# Altium footprint library IC.PcbLib: 51 footprints (part 1 of 4)
Each footprint in its own frame and in the unit in brackets; x right, y up, seen from the top. Pads: shape width x height; smd on the part's side, far side on the other; paste and mask are expansions set on the pad; w line width, h text height; cw(c..) or ccw(c..) is an arc to the next point about the centre after c.
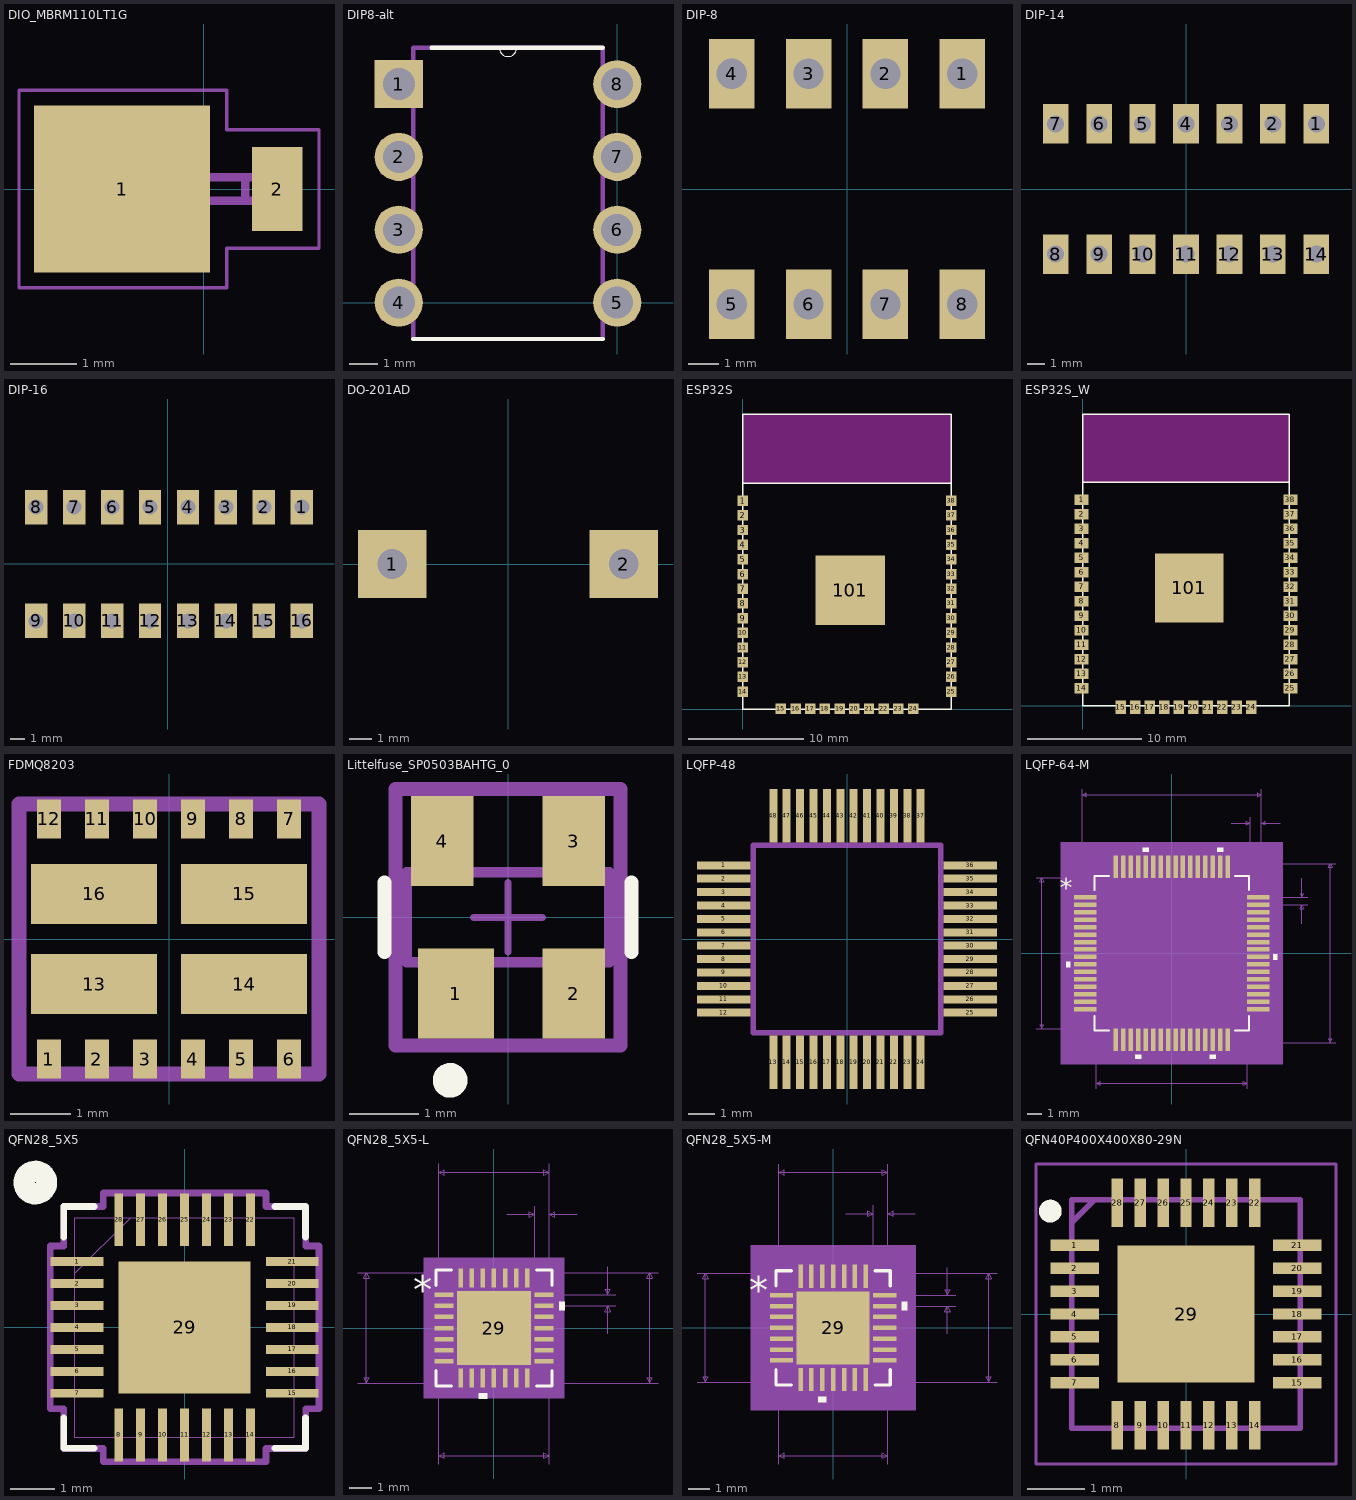
[diagram p0: the footprints below, top view; thin cyan lines are the x and y axes]

## DIO_MBRM110LT1G [mm]
pads (2):
  rect 2.67x2.54 smd: 1(-1.235,0)
  rect 0.762x1.27 smd: 2(1.116,0)
Mechanical 1:
  lines w0.127: -1.96,-0.425 -2.46,-0.425 -2.46,0.425 -1.96,0.425 ; -1.96,-0.425 -1.96,0.425 ; -1.96,-0.425 -1.96,-1 0,-1 0,-0.18 ; -1.96,0.425 -1.96,1 0,1 0,0.18 ; 0,-0.18 0.635,-0.18 ; 0,-0.18 0,0.18 ; 0,0.18 0.635,0.18 ; 0.635,-0.18 0.635,0.18 ; 0.635,-0.18 1.35,-0.18 1.35,0.18 0.635,0.18
Mechanical 4:
  lines w0.05: -2.8,-1.5 -2.8,1.5 0.35,1.5 0.35,0.9 1.75,0.9 1.75,-0.9 0.35,-0.9 0.35,-1.5 -2.8,-1.5

## DIP8-alt [mil]
pads (8):
  rect 66x66 hole 44: 1(-300,300)
  round 66 hole 44: 2(-300,200) 3(-300,100) 4(-300,0) 5(0,0) 6(0,100) 7(0,200) 8(0,300)
Top Overlay:
  lines w0: -162,350 ccw(c-150,350) -138,350
  lines w6: -280,-50 -20,-50 ; -255,350 -162,350 -138,350 -20,350
Mechanical 1:
  lines w0: -162,350 ccw(c-150,350) -138,350
  lines w6: -322,-22 -280,-22 -280,22 -322,22 -322,-22 ; -322,78 -280,78 -280,122 -322,122 -322,78 ; -322,178 -280,178 -280,222 -322,222 -322,178 ; -322,278 -280,278 -280,322 -322,322 -322,278 ; -280,-50 -280,350 -162,350 -138,350 -20,350 -20,-50 -280,-50 ; -20,-22 22,-22 22,22 -20,22 -20,-22 ; -20,78 22,78 22,122 -20,122 -20,78 ; -20,178 22,178 22,222 -20,222 -20,178 ; -20,278 22,278 22,322 -20,322 -20,278

## DIP-8 [mm]
pads (8):
  rect 1.5x2.3 hole 1: 1(3.81,3.81) 2(1.27,3.81) 3(-1.27,3.81) 4(-3.81,3.81) 5(-3.81,-3.81) 6(-1.27,-3.81) 7(1.27,-3.81) 8(3.81,-3.81)
3D body "MS-001BA DIP-8.stp": height 5.33, standoff -2.95, extent -5.08,-4.06 5.08,3.81

## DIP-14 [mm]
pads (14):
  rect 1.5x2.3 hole 1: 1(7.62,3.81) 2(5.08,3.81) 3(2.54,3.81) 4(0,3.81) 5(-2.54,3.81) 6(-5.08,3.81) 7(-7.62,3.81) 8(-7.62,-3.81) 9(-5.08,-3.81) 10(-2.54,-3.81) 11(0,-3.81) 12(2.54,-3.81) 13(5.08,-3.81) 14(7.62,-3.81)
3D body "MS-001AA DIP-14.stp": height 5.33, standoff -2.95, extent -9.845,-3.81 9.845,4.06

## DIP-16 [mm]
pads (16):
  rect 1.5x2.3 hole 1: 1(8.98,3.8) 2(6.44,3.8) 3(3.9,3.8) 4(1.36,3.8) 5(-1.18,3.8) 6(-3.72,3.8) 7(-6.26,3.8) 8(-8.8,3.8) 9(-8.8,-3.82) 10(-6.26,-3.82) 11(-3.72,-3.82) 12(-1.18,-3.82) 13(1.36,-3.82) 14(3.9,-3.82) 15(6.44,-3.82) 16(8.98,-3.82)
3D body "MS-001AB DIP-16.stp": height 5.33, standoff -2.95, extent -10.06,-3.97 10.26,3.9

## DO-201AD [mm]
pads (2):
  rect 3x3 hole 1.3: 1(-5.08,0) 2(5.08,0)

## ESP32S [mm] "ESP32S-Module"
height 2.8
pads (39):
  rect 0.9x0.9 smd: 1(0,18.034) 2(0,16.764) 3(0,15.494) 4(0,14.224) 5(0,12.954) 6(0,11.684) 7(0,10.414) 8(0,9.144) 9(0,7.874) 10(0,6.604) 11(0,5.334) 12(0,4.064) 13(0,2.794) 14(0,1.524) 15(3.3,0.034) 16(4.57,0.034) 17(5.84,0.034) 18(7.11,0.034) 19(8.38,0.034) 20(9.65,0.034) 21(10.92,0.034) 22(12.19,0.034) 23(13.46,0.034) 24(14.73,0.034) 25(18.034,1.524) 26(18.034,2.794) 27(18.034,4.064) 28(18.034,5.334) 29(18.034,6.604) 30(18.034,7.874) 31(18.034,9.144) 32(18.034,10.414) 33(18.034,11.684) 34(18.034,12.954) 35(18.034,14.224) 36(18.034,15.494) 37(18.034,16.764) 38(18.034,18.034)
  rect 6x6 smd: 101(9.3,10.3)
Top Overlay:
  lines w0.127: 0,19.558 18.034,19.558 ; 0,0 0,25.527 18.034,25.527 18.034,0 0,0
Keep-Out Layer:
  rectangle: 0,19.558 18.034,25.527
3D body: height 0.8, standoff 0, extent 0,0 18.034,25.527
3D body: height 2, standoff 0.8, extent 0.635,0.635 17.526,19.558

## ESP32S_W [mm] "Esp32S Module wide for hand soldering"
pads (39):
  rect 1.2x0.9 smd: 1(-0.127,18.034) 2(-0.127,16.764) 3(-0.127,15.494) 4(-0.127,14.224) 5(-0.127,12.954) 6(-0.127,11.684) 7(-0.127,10.414) 8(-0.127,9.144) 9(-0.127,7.874) 10(-0.127,6.604) 11(-0.127,5.334) 12(-0.127,4.064) 13(-0.127,2.794) 14(-0.127,1.524) 25(18.161,1.524) 26(18.161,2.794) 27(18.161,4.064) 28(18.161,5.334) 29(18.161,6.604) 30(18.161,7.874) 31(18.161,9.144) 32(18.161,10.414) 33(18.161,11.684) 34(18.161,12.954) 35(18.161,14.224) 36(18.161,15.494) 37(18.161,16.764) 38(18.161,18.034)
  rect 0.9x1.2 smd: 15(3.302,-0.127) 16(4.57,-0.127) 17(5.84,-0.127) 18(7.11,-0.127) 19(8.38,-0.127) 20(9.65,-0.127) 21(10.92,-0.127) 22(12.19,-0.127) 23(13.46,-0.127) 24(14.73,-0.127)
  rect 6x6 smd: 101(9.3,10.3)
Top Overlay:
  lines w0.127: 0,19.558 18.034,19.558 ; 0,0 0,25.527 18.034,25.527 18.034,0 0,0
Keep-Out Layer:
  rectangle: 0,19.558 18.034,25.527
3D body: height 0.8, standoff 0, extent 0,0 18.034,25.527
3D body: height 2, standoff 0.8, extent 0.635,0.635 17.526,19.558

## FDMQ8203 [mm]
pads (16):
  rect 0.4x0.65 smd: 1(-2,-2) 2(-1.2,-2) 3(-0.4,-2) 4(0.4,-2) 5(1.2,-2) 6(2,-2) 7(2,2) 8(1.2,2) 9(0.4,2) 10(-0.4,2) 11(-1.2,2) 12(-2,2)
  rect 2.1x1 smd: 13(-1.25,-0.75) 14(1.25,-0.75) 15(1.25,0.75) 16(-1.25,0.75)
Mechanical 1:
  lines w0.254: -2.5,-2.25 -2.5,2.25 2.5,2.25 2.5,-2.25 -2.5,-2.25

## Littelfuse_SP0503BAHTG_0 [mm]
pads (4):
  rect 1.1x1.3 smd paste+0 mask+0: 1(-0.75,-1.1)
  rect 0.9x1.3 smd paste+0 mask+0: 2(0.95,-1.1) 3(0.95,1.1) 4(-0.95,1.1)
Top Overlay:
  circle w0.25: c-0.835,-2.35 r0.125
  lines w0.2: -1.78,-0.5 -1.78,0.5 ; 1.78,-0.5 1.78,0.5
Mechanical 10:
  lines w0.2: -1.62,-1.85 1.62,-1.85 1.62,1.85 -1.62,1.85 -1.62,-1.85
Mechanical 12:
  lines w0.15: -1.46,-0.65 1.46,-0.65 1.46,0.65 -1.46,0.65 -1.46,-0.65
Mechanical 15:
  lines w0.1: -0.5,0 0.5,0 ; 0,-0.5 0,0.5
  lines w0.2: -1.62,-1.85 1.62,-1.85 1.62,1.85 -1.62,1.85 -1.62,-1.85
3D body "Diode_Littelfuse_SP0503BAHTG_eec.STEP": height 1.22, standoff 0, extent -1.45,-1.181 1.45,1.182

## LQFP-48 [mm]
pads (48):
  rect 2x0.3 smd: 1(-4.6,2.75) 2(-4.6,2.25) 3(-4.6,1.75) 4(-4.6,1.25) 5(-4.6,0.75) 6(-4.6,0.25) 7(-4.6,-0.25) 8(-4.6,-0.75) 9(-4.6,-1.25) 10(-4.6,-1.75) 11(-4.6,-2.25) 12(-4.6,-2.75) 25(4.6,-2.75) 26(4.6,-2.25) 27(4.6,-1.75) 28(4.6,-1.25) 29(4.6,-0.75) 30(4.6,-0.25) 31(4.6,0.25) 32(4.6,0.75) 33(4.6,1.25) 34(4.6,1.75) 35(4.6,2.25) 36(4.6,2.75)
  rect 0.3x2 smd: 13(-2.75,-4.6) 14(-2.25,-4.6) 15(-1.75,-4.6) 16(-1.25,-4.6) 17(-0.75,-4.6) 18(-0.25,-4.6) 19(0.25,-4.6) 20(0.75,-4.6) 21(1.25,-4.6) 22(1.75,-4.6) 23(2.25,-4.6) 24(2.75,-4.6) 37(2.75,4.6) 38(2.25,4.6) 39(1.75,4.6) 40(1.25,4.6) 41(0.75,4.6) 42(0.25,4.6) 43(-0.25,4.6) 44(-0.75,4.6) 45(-1.25,4.6) 46(-1.75,4.6) 47(-2.25,4.6) 48(-2.75,4.6)
Mechanical 1:
  lines w0.2: -3.5,-3.5 3.5,-3.5 3.5,3.5 -3.5,3.5 -3.5,-3.5

## LQFP-64-M [mm]
pads (64):
  rect 1.502x0.299 smd paste+0 mask+0: 1(-5.806,3.75) 2(-5.806,3.25) 3(-5.806,2.75) 4(-5.806,2.25) 5(-5.806,1.75) 6(-5.806,1.25) 7(-5.806,0.75) 8(-5.806,0.25) 9(-5.806,-0.25) 10(-5.806,-0.75) 11(-5.806,-1.25) 12(-5.806,-1.75) 13(-5.806,-2.25) 14(-5.806,-2.75) 15(-5.806,-3.25) 16(-5.806,-3.75) 33(5.806,-3.75) 34(5.806,-3.25) 35(5.806,-2.75) 36(5.806,-2.25) 37(5.806,-1.75) 38(5.806,-1.25) 39(5.806,-0.75) 40(5.806,-0.25) 41(5.806,0.25) 42(5.806,0.75) 43(5.806,1.25) 44(5.806,1.75) 45(5.806,2.25) 46(5.806,2.75) 47(5.806,3.25) 48(5.806,3.75)
  rect 0.299x1.502 smd paste+0 mask+0: 17(-3.75,-5.806) 18(-3.25,-5.806) 19(-2.75,-5.806) 20(-2.25,-5.806) 21(-1.75,-5.806) 22(-1.25,-5.806) 23(-0.75,-5.806) 24(-0.25,-5.806) 25(0.25,-5.806) 26(0.75,-5.806) 27(1.25,-5.806) 28(1.75,-5.806) 29(2.25,-5.806) 30(2.75,-5.806) 31(3.25,-5.806) 32(3.75,-5.806) 49(3.75,5.806) 50(3.25,5.806) 51(2.75,5.806) 52(2.25,5.806) 53(1.75,5.806) 54(1.25,5.806) 55(0.75,5.806) 56(0.25,5.806) 57(-0.25,5.806) 58(-0.75,5.806) 59(-1.25,5.806) 60(-1.75,5.806) 61(-2.25,5.806) 62(-2.75,5.806) 63(-3.25,5.806) 64(-3.75,5.806)
Top Overlay:
  region: -6.811,-0.56 -7.065,-0.56 -7.065,-0.941 -6.811,-0.941
  region: -2.06,-6.811 -2.441,-6.811 -2.441,-7.065 -2.06,-7.065
  region: 2.94,-6.811 2.559,-6.811 2.559,-7.065 2.94,-7.065
  region: 6.811,-0.059 7.065,-0.059 7.065,-0.44 6.811,-0.44
  region: 3.441,6.811 3.06,6.811 3.06,7.065 3.441,7.065
  region: -1.559,6.811 -1.94,6.811 -1.94,7.065 -1.559,7.065
  lines w0.152: -5.182,-4.232 -5.182,-5.182 -4.232,-5.182 ; -5.182,4.232 -5.182,5.182 -4.232,5.182 ; 4.232,-5.182 5.182,-5.182 5.182,-4.232 ; 4.232,5.182 5.182,5.182 5.182,4.232
  text "*" at -7.51,3.746 h1.27
Mechanical 5:
  region: 7.446,-7.446 -7.446,-7.446 -7.446,7.446 7.446,7.446
Mechanical 7:
  lines w0.025: -9.108,-5.055 -3.75,-5.055 ; -9.108,5.055 -3.75,5.055 ; -6.007,3.75 -6.007,11.013 ; -5.055,-9.108 -5.055,-3.75 ; 3.75,-6.007 11.013,-6.007 ; 3.75,6.007 11.013,6.007 ; 3.975,8.727 5.245,8.727 ; 5.055,-9.108 5.055,-3.75 ; 5.245,3.75 5.245,9.108 ; 5.806,3.25 9.108,3.25 ; 5.806,3.75 9.108,3.75 ; 6.007,9.108 6.007,3.75 6.007,11.013 ; 7.277,8.727 6.007,8.727 ; 8.727,1.98 8.727,3.25 ; 8.727,5.02 8.727,3.75 ; -8.727,-5.055 -8.727,5.055 ; -8.727,-5.055 -8.854,-4.801 -8.6,-4.801 -8.727,-5.055 ; -8.727,5.055 -8.854,4.801 -8.6,4.801 -8.727,5.055 ; -6.007,10.632 6.007,10.632 ; -6.007,10.632 -5.753,10.759 -5.753,10.505 -6.007,10.632 ; -5.055,-8.727 5.055,-8.727 ; -5.055,-8.727 -4.801,-8.6 -4.801,-8.854 -5.055,-8.727 ; 5.055,-8.727 4.801,-8.6 4.801,-8.854 5.055,-8.727 ; 5.245,8.727 4.991,8.854 4.991,8.6 5.245,8.727 ; 6.007,8.727 6.261,8.854 6.261,8.6 6.007,8.727 ; 6.007,10.632 5.753,10.759 5.753,10.505 6.007,10.632 ; 8.727,3.25 8.6,2.996 8.854,2.996 8.727,3.25 ; 8.727,3.75 8.6,4.004 8.854,4.004 8.727,3.75 ; 10.632,-6.007 10.632,6.007 ; 10.632,-6.007 10.505,-5.753 10.759,-5.753 10.632,-6.007 ; 10.632,6.007 10.505,5.753 10.759,5.753 10.632,6.007
  text "0.02in/0.5mm" at 9.235,3.183 h0.64
  text "0.03in/0.762mm" at 3.404,9.235 h0.64
  text "0.473in/12.014mm" at -2.54,11.14 h0.64
  text "0.398in/10.109mm" at -2.54,-9.87 h0.64
  text "0.398in/10.109mm" at -14.315,-0.318 h0.64
  text "0.473in/12.014mm" at 11.14,-0.318 h0.64
Mechanical 13:
  drawing of 261 lines, arcs and shapes, not listed
  text "*" at -4.991,3.365 h1.27
Mechanical 15:
  region: -4.408,-5.563 -5.563,-5.563 -5.563,-4.408 -7.065,-4.408 -7.065,4.408 -5.563,4.408 -5.563,5.563 -4.408,5.563 -4.408,7.065 4.408,7.065 4.408,5.563 5.563,5.563 5.563,4.408 7.065,4.408 7.065,-4.408 5.563,-4.408 5.563,-5.563 4.408,-5.563 4.408,-7.065 -4.408,-7.065
  lines w0.152: -7.065,-4.408 -5.563,-4.408 -5.563,-5.563 -4.408,-5.563 -4.408,-7.065 4.408,-7.065 4.408,-5.563 5.563,-5.563 5.563,-4.408 7.065,-4.408 7.065,4.408 5.563,4.408 5.563,5.563 4.408,5.563 4.408,7.065 -4.408,7.065 -4.408,5.563 -5.563,5.563 -5.563,4.408 -7.065,4.408 -7.065,-4.408
3D body: height 0.25, standoff 0, extent 0,0 0.254,0.254

## QFN28_5X5 [mm]
pads (29):
  rect 1.2x0.203 smd paste+0 mask+0: 1(-2.45,1.5) 2(-2.45,1) 3(-2.45,0.5) 4(-2.45,0) 5(-2.45,-0.5) 6(-2.45,-1) 7(-2.45,-1.5) 15(2.45,-1.5) 16(2.45,-1) 17(2.45,-0.5) 18(2.45,0) 19(2.45,0.5) 20(2.45,1) 21(2.45,1.5)
  rect 0.203x1.2 smd paste+0 mask+0: 8(-1.5,-2.45) 9(-1,-2.45) 10(-0.5,-2.45) 11(0,-2.45) 12(0.5,-2.45) 13(1,-2.45) 14(1.5,-2.45) 22(1.5,2.45) 23(1,2.45) 24(0.5,2.45) 25(0,2.45) 26(-0.5,2.45) 27(-1,2.45) 28(-1.5,2.45)
  rect 3x3 smd paste-1.664 mask+0: 29(0,0)
Top Overlay:
  circle w0.254: c-3.4,3.3 r0.372
  circle w0.254: c-3.4,3.3 r0.141
  lines w0.152: -2.754,-2.059 -2.754,-2.754 -2.059,-2.754 ; -2.754,2.059 -2.754,2.754 -2.059,2.754 ; 2.059,-2.754 2.754,-2.754 2.754,-2.059 ; 2.059,2.754 2.754,2.754 2.754,2.059
Top Paste:
  region: -0.088,1.363 -1.363,1.363 -1.363,0.124 -0.088,0.124
  region: -1.363,-0.124 -1.363,-1.363 -0.088,-1.363 -0.088,-0.124
  region: 0.088,-1.363 1.363,-1.363 1.363,-0.088 0.088,-0.088
  region: 1.363,0.124 1.363,1.363 0.088,1.363 0.088,0.124
Mechanical 13:
  lines w0.025: -2.502,1.232 -1.232,2.502 ; -2.502,-2.502 -2.502,2.502 2.502,2.502 2.502,-2.502 -2.502,-2.502 ; -2.502,-1.652 -2.502,-1.348 -2.502,-1.652 ; -2.502,-1.152 -2.502,-0.848 -2.502,-1.152 ; -2.502,-0.652 -2.502,-0.348 -2.502,-0.652 ; -2.502,-0.152 -2.502,0.152 -2.502,-0.152 ; -2.502,0.348 -2.502,0.652 -2.502,0.348 ; -2.502,0.848 -2.502,1.152 -2.502,0.848 ; -2.502,1.348 -2.502,1.652 -2.502,1.348 ; -1.652,-2.502 -1.348,-2.502 -1.652,-2.502 ; -1.652,2.502 -1.348,2.502 -1.652,2.502 ; -1.152,-2.502 -0.848,-2.502 -1.152,-2.502 ; -1.152,2.502 -0.848,2.502 -1.152,2.502 ; -0.652,-2.502 -0.348,-2.502 -0.652,-2.502 ; -0.652,2.502 -0.348,2.502 -0.652,2.502 ; -0.152,-2.502 0.152,-2.502 -0.152,-2.502 ; -0.152,2.502 0.152,2.502 -0.152,2.502 ; 0.348,-2.502 0.652,-2.502 0.348,-2.502 ; 0.348,2.502 0.652,2.502 0.348,2.502 ; 0.848,-2.502 1.152,-2.502 0.848,-2.502 ; 0.848,2.502 1.152,2.502 0.848,2.502 ; 1.348,-2.502 1.652,-2.502 1.348,-2.502 ; 1.348,2.502 1.652,2.502 1.348,2.502 ; 2.502,-1.652 2.502,-1.348 2.502,-1.652 ; 2.502,-1.152 2.502,-0.848 2.502,-1.152 ; 2.502,-0.652 2.502,-0.348 2.502,-0.652 ; 2.502,-0.152 2.502,0.152 2.502,-0.152 ; 2.502,0.348 2.502,0.652 2.502,0.348 ; 2.502,0.848 2.502,1.152 2.502,0.848 ; 2.502,1.348 2.502,1.652 2.502,1.348
  text "*" at -2.159,1.115 h1.27
Mechanical 15:
  lines w0.152: -3.061,-1.856 -3.061,1.856 -2.756,1.856 -2.756,2.756 -1.856,2.756 -1.856,3.061 1.856,3.061 1.856,2.756 2.756,2.756 2.756,1.856 3.061,1.856 3.061,-1.856 2.756,-1.856 2.756,-2.756 1.856,-2.756 1.856,-3.061 -1.856,-3.061 -1.856,-2.756 -2.756,-2.756 -2.756,-1.856 -3.061,-1.856
3D body: height 0.25, standoff 0, extent 0,0 0.254,0.254

## QFN28_5X5-L [mil]
pads (29):
  rect 34x8 smd paste+0 mask+0: 1(-89.5,59.06) 2(-89.5,39.37) 3(-89.5,19.68) 4(-89.5,0) 5(-89.5,-19.68) 6(-89.5,-39.37) 7(-89.5,-59.06) 15(89.5,-59.06) 16(89.5,-39.37) 17(89.5,-19.68) 18(89.5,0) 19(89.5,19.68) 20(89.5,39.37) 21(89.5,59.06)
  rect 8x34 smd paste+0 mask+0: 8(-59.06,-89.5) 9(-39.37,-89.5) 10(-19.68,-89.5) 11(0,-89.5) 12(19.68,-89.5) 13(39.37,-89.5) 14(59.06,-89.5) 22(59.06,89.5) 23(39.37,89.5) 24(19.68,89.5) 25(0,89.5) 26(-19.68,89.5) 27(-39.37,89.5) 28(-59.06,89.5)
  rect 132x132 smd paste-65.5 mask+0: 29(0,0)
Top Overlay:
  region: -12.19,-116.5 -27.18,-116.5 -27.18,-126.5 -12.19,-126.5
  region: 116.5,46.87 126.5,46.87 126.5,31.87 116.5,31.87
  lines w6: -103.5,-76.16 -103.5,-103.5 -76.16,-103.5 ; -103.5,76.16 -103.5,103.5 -76.16,103.5 ; 76.16,-103.5 103.5,-103.5 103.5,-76.16 ; 76.16,103.5 103.5,103.5 103.5,76.16
  text "*" at -144,43.9 h50
Top Paste:
  region: -3.94,62.06 -62.06,62.06 -62.06,3.94 -3.94,3.94
  region: -3.94,-3.94 -62.06,-3.94 -62.06,-62.06 -3.94,-62.06
  region: 62.06,62.06 3.94,62.06 3.94,3.94 62.06,3.94
  region: 62.06,-3.94 3.94,-3.94 3.94,-62.06 62.06,-62.06
Mechanical 5:
  region: 125.5,-125.5 -125.5,-125.5 -125.5,125.5 125.5,125.5
Mechanical 7:
  lines w1: -242.5,-98.5 98.5,-98.5 ; -242.5,98.5 98.5,98.5 98.5,-242.5 ; -98.5,-242.5 -98.5,98.5 ; -98.5,59.06 -98.5,292.5 ; 22.5,202.5 72.5,202.5 ; 59.06,-98.5 292.5,-98.5 ; 59.06,98.5 292.5,98.5 ; 72.5,59.06 72.5,217.5 ; 89.5,39.37 217.5,39.37 ; 89.5,59.06 217.5,59.06 ; 98.5,217.5 98.5,59.06 98.5,292.5 ; 148.5,202.5 98.5,202.5 ; 202.5,-10.63 202.5,39.37 ; 202.5,109.06 202.5,59.06 ; -227.5,-98.5 -227.5,98.5 ; -227.5,-98.5 -232.5,-88.5 -222.5,-88.5 -227.5,-98.5 ; -227.5,98.5 -232.5,88.5 -222.5,88.5 -227.5,98.5 ; -98.5,-227.5 98.5,-227.5 ; -98.5,-227.5 -88.5,-222.5 -88.5,-232.5 -98.5,-227.5 ; -98.5,277.5 98.5,277.5 ; -98.5,277.5 -88.5,282.5 -88.5,272.5 -98.5,277.5 ; 72.5,202.5 62.5,207.5 62.5,197.5 72.5,202.5 ; 98.5,-227.5 88.5,-222.5 88.5,-232.5 98.5,-227.5 ; 98.5,202.5 108.5,207.5 108.5,197.5 98.5,202.5 ; 98.5,277.5 88.5,282.5 88.5,272.5 98.5,277.5 ; 202.5,39.37 197.5,29.37 207.5,29.37 202.5,39.37 ; 202.5,59.06 197.5,69.06 207.5,69.06 202.5,59.06 ; 277.5,-98.5 277.5,98.5 ; 277.5,-98.5 272.5,-88.5 282.5,-88.5 277.5,-98.5 ; 277.5,98.5 272.5,88.5 282.5,88.5 277.5,98.5
  text "Default Padstyle: RX8Y34D0T" at -337.5,-416.5 h50
  text "Heat Tab Padstyle: RX132Y132D0T" at -387.5,-476.5 h50
  text "Alt 1 Padstyle: OX60Y90D30P" at -337.5,-596.5 h50
  text "Alt 2 Padstyle: OX90Y60D30P" at -337.5,-656.5 h50
  text "0.02in/0.5mm" at 222.5,36.71 h25
  text "0.026in/0.66mm" at -2,222.5 h25
  text "0.197in/5.004mm" at -93.75,297.5 h25
  text "0.197in/5.004mm" at 297.5,-12.5 h25
  text "0.197in/5.004mm" at -435,-12.5 h25
  text "0.197in/5.004mm" at -93.75,-272.5 h25
Mechanical 13:
  lines w1: -98.5,48.5 -48.5,98.5 ; -98.5,-98.5 98.5,-98.5 98.5,98.5 -98.5,98.5 -98.5,-98.5 ; -98.5,-65.06 -98.5,-53.06 -98.5,-65.06 ; -98.5,-45.37 -98.5,-33.37 -98.5,-45.37 ; -98.5,-25.68 -98.5,-13.69 -98.5,-25.68 ; -98.5,-6 -98.5,6 -98.5,-6 ; -98.5,13.69 -98.5,25.68 -98.5,13.69 ; -98.5,33.37 -98.5,45.37 -98.5,33.37 ; -98.5,53.06 -98.5,65.06 -98.5,53.06 ; -65.06,-98.5 -53.06,-98.5 -65.06,-98.5 ; -65.06,98.5 -53.06,98.5 -65.06,98.5 ; -45.37,-98.5 -33.37,-98.5 -45.37,-98.5 ; -45.37,98.5 -33.37,98.5 -45.37,98.5 ; -25.68,-98.5 -13.69,-98.5 -25.68,-98.5 ; -25.68,98.5 -13.69,98.5 -25.68,98.5 ; -6,-98.5 6,-98.5 -6,-98.5 ; -6,98.5 6,98.5 -6,98.5 ; 13.69,-98.5 25.68,-98.5 13.69,-98.5 ; 13.69,98.5 25.68,98.5 13.69,98.5 ; 33.37,-98.5 45.37,-98.5 33.37,-98.5 ; 33.37,98.5 45.37,98.5 33.37,98.5 ; 53.06,-98.5 65.06,-98.5 53.06,-98.5 ; 53.06,98.5 65.06,98.5 53.06,98.5 ; 98.5,-65.06 98.5,-53.06 98.5,-65.06 ; 98.5,-45.37 98.5,-33.37 98.5,-45.37 ; 98.5,-25.68 98.5,-13.69 98.5,-25.68 ; 98.5,-6 98.5,6 98.5,-6 ; 98.5,13.69 98.5,25.68 98.5,13.69 ; 98.5,33.37 98.5,45.37 98.5,33.37 ; 98.5,53.06 98.5,65.06 98.5,53.06
  text "*" at -85,43.9 h50
Mechanical 15:
  region: -67.06,-102.5 -102.5,-102.5 -102.5,-67.06 -110.5,-67.06 -110.5,67.06 -102.5,67.06 -102.5,102.5 -67.06,102.5 -67.06,110.5 67.06,110.5 67.06,102.5 102.5,102.5 102.5,67.06 110.5,67.06 110.5,-67.06 102.5,-67.06 102.5,-102.5 67.06,-102.5 67.06,-110.5 -67.06,-110.5
  lines w6: -110.5,-67.06 -102.5,-67.06 -102.5,-102.5 -67.06,-102.5 -67.06,-110.5 67.06,-110.5 67.06,-102.5 102.5,-102.5 102.5,-67.06 110.5,-67.06 110.5,67.06 102.5,67.06 102.5,102.5 67.06,102.5 67.06,110.5 -67.06,110.5 -67.06,102.5 -102.5,102.5 -102.5,67.06 -110.5,67.06 -110.5,-67.06
3D body: height 10, standoff 0, extent 0,0 10,10

## QFN28_5X5-M [mil]
pads (29):
  rect 42x8 smd paste+0 mask+0: 1(-93.5,59.06) 2(-93.5,39.37) 3(-93.5,19.68) 4(-93.5,0) 5(-93.5,-19.68) 6(-93.5,-39.37) 7(-93.5,-59.06) 15(93.5,-59.06) 16(93.5,-39.37) 17(93.5,-19.68) 18(93.5,0) 19(93.5,19.68) 20(93.5,39.37) 21(93.5,59.06)
  rect 8x42 smd paste+0 mask+0: 8(-59.06,-93.5) 9(-39.37,-93.5) 10(-19.68,-93.5) 11(0,-93.5) 12(19.68,-93.5) 13(39.37,-93.5) 14(59.06,-93.5) 22(59.06,93.5) 23(39.37,93.5) 24(19.68,93.5) 25(0,93.5) 26(-19.68,93.5) 27(-39.37,93.5) 28(-59.06,93.5)
  rect 132x132 smd paste-65.5 mask+0: 29(0,0)
Top Overlay:
  region: -12.19,-124.5 -27.18,-124.5 -27.18,-134.5 -12.19,-134.5
  region: 124.5,46.87 134.5,46.87 134.5,31.87 124.5,31.87
  lines w6: -103.5,-76.16 -103.5,-103.5 -76.16,-103.5 ; -103.5,76.16 -103.5,103.5 -76.16,103.5 ; 76.16,-103.5 103.5,-103.5 103.5,-76.16 ; 76.16,103.5 103.5,103.5 103.5,76.16
  text "*" at -152,43.9 h50
Top Paste:
  region: -3.94,62.06 -62.06,62.06 -62.06,3.94 -3.94,3.94
  region: -3.94,-3.94 -62.06,-3.94 -62.06,-62.06 -3.94,-62.06
  region: 62.06,62.06 3.94,62.06 3.94,3.94 62.06,3.94
  region: 62.06,-3.94 3.94,-3.94 3.94,-62.06 62.06,-62.06
Mechanical 5:
  region: 149.5,-149.5 -149.5,-149.5 -149.5,149.5 149.5,149.5
Mechanical 7:
  lines w1: -246.5,-98.5 98.5,-98.5 ; -246.5,98.5 98.5,98.5 98.5,-246.5 ; -98.5,-246.5 -98.5,98.5 ; -98.5,59.06 -98.5,296.5 ; 22.5,206.5 72.5,206.5 ; 59.06,-98.5 296.5,-98.5 ; 59.06,98.5 296.5,98.5 ; 72.5,59.06 72.5,221.5 ; 93.5,39.37 221.5,39.37 ; 93.5,59.06 221.5,59.06 ; 98.5,221.5 98.5,59.06 98.5,296.5 ; 148.5,206.5 98.5,206.5 ; 206.5,-10.63 206.5,39.37 ; 206.5,109.06 206.5,59.06 ; -231.5,-98.5 -231.5,98.5 ; -231.5,-98.5 -236.5,-88.5 -226.5,-88.5 -231.5,-98.5 ; -231.5,98.5 -236.5,88.5 -226.5,88.5 -231.5,98.5 ; -98.5,-231.5 98.5,-231.5 ; -98.5,-231.5 -88.5,-226.5 -88.5,-236.5 -98.5,-231.5 ; -98.5,281.5 98.5,281.5 ; -98.5,281.5 -88.5,286.5 -88.5,276.5 -98.5,281.5 ; 72.5,206.5 62.5,211.5 62.5,201.5 72.5,206.5 ; 98.5,-231.5 88.5,-226.5 88.5,-236.5 98.5,-231.5 ; 98.5,206.5 108.5,211.5 108.5,201.5 98.5,206.5 ; 98.5,281.5 88.5,286.5 88.5,276.5 98.5,281.5 ; 206.5,39.37 201.5,29.37 211.5,29.37 206.5,39.37 ; 206.5,59.06 201.5,69.06 211.5,69.06 206.5,59.06 ; 281.5,-98.5 281.5,98.5 ; 281.5,-98.5 276.5,-88.5 286.5,-88.5 281.5,-98.5 ; 281.5,98.5 276.5,88.5 286.5,88.5 281.5,98.5
  text "Default Padstyle: RX8Y42D0T" at -337.5,-424.5 h50
  text "Heat Tab Padstyle: RX132Y132D0T" at -387.5,-484.5 h50
  text "Alt 1 Padstyle: OX60Y90D30P" at -337.5,-604.5 h50
  text "Alt 2 Padstyle: OX90Y60D30P" at -337.5,-664.5 h50
  text "0.02in/0.5mm" at 226.5,36.71 h25
  text "0.026in/0.66mm" at -2,226.5 h25
  text "0.197in/5.004mm" at -93.75,301.5 h25
  text "0.197in/5.004mm" at 301.5,-12.5 h25
  text "0.197in/5.004mm" at -439,-12.5 h25
  text "0.197in/5.004mm" at -93.75,-276.5 h25
Mechanical 13:
  lines w1: -98.5,48.5 -48.5,98.5 ; -98.5,-98.5 98.5,-98.5 98.5,98.5 -98.5,98.5 -98.5,-98.5 ; -98.5,-65.06 -98.5,-53.06 -98.5,-65.06 ; -98.5,-45.37 -98.5,-33.37 -98.5,-45.37 ; -98.5,-25.68 -98.5,-13.69 -98.5,-25.68 ; -98.5,-6 -98.5,6 -98.5,-6 ; -98.5,13.69 -98.5,25.68 -98.5,13.69 ; -98.5,33.37 -98.5,45.37 -98.5,33.37 ; -98.5,53.06 -98.5,65.06 -98.5,53.06 ; -65.06,-98.5 -53.06,-98.5 -65.06,-98.5 ; -65.06,98.5 -53.06,98.5 -65.06,98.5 ; -45.37,-98.5 -33.37,-98.5 -45.37,-98.5 ; -45.37,98.5 -33.37,98.5 -45.37,98.5 ; -25.68,-98.5 -13.69,-98.5 -25.68,-98.5 ; -25.68,98.5 -13.69,98.5 -25.68,98.5 ; -6,-98.5 6,-98.5 -6,-98.5 ; -6,98.5 6,98.5 -6,98.5 ; 13.69,-98.5 25.68,-98.5 13.69,-98.5 ; 13.69,98.5 25.68,98.5 13.69,98.5 ; 33.37,-98.5 45.37,-98.5 33.37,-98.5 ; 33.37,98.5 45.37,98.5 33.37,98.5 ; 53.06,-98.5 65.06,-98.5 53.06,-98.5 ; 53.06,98.5 65.06,98.5 53.06,98.5 ; 98.5,-65.06 98.5,-53.06 98.5,-65.06 ; 98.5,-45.37 98.5,-33.37 98.5,-45.37 ; 98.5,-25.68 98.5,-13.69 98.5,-25.68 ; 98.5,-6 98.5,6 98.5,-6 ; 98.5,13.69 98.5,25.68 98.5,13.69 ; 98.5,33.37 98.5,45.37 98.5,33.37 ; 98.5,53.06 98.5,65.06 98.5,53.06
  text "*" at -85,43.9 h50
Mechanical 15:
  region: -83.06,-118.5 -118.5,-118.5 -118.5,-83.06 -134.5,-83.06 -134.5,83.06 -118.5,83.06 -118.5,118.5 -83.06,118.5 -83.06,134.5 83.06,134.5 83.06,118.5 118.5,118.5 118.5,83.06 134.5,83.06 134.5,-83.06 118.5,-83.06 118.5,-118.5 83.06,-118.5 83.06,-134.5 -83.06,-134.5
  lines w6: -134.5,-83.06 -118.5,-83.06 -118.5,-118.5 -83.06,-118.5 -83.06,-134.5 83.06,-134.5 83.06,-118.5 118.5,-118.5 118.5,-83.06 134.5,-83.06 134.5,83.06 118.5,83.06 118.5,118.5 83.06,118.5 83.06,134.5 -83.06,134.5 -83.06,118.5 -118.5,118.5 -118.5,83.06 -134.5,83.06 -134.5,-83.06
3D body: height 10, standoff 0, extent 0,0 10,10

## QFN40P400X400X80-29N [mil]
pads (29):
  rect 33.46x7.87 smd: 1(-76.77,47.24) 2(-76.77,31.5) 3(-76.77,15.75) 4(-76.77,0) 5(-76.77,-15.75) 6(-76.77,-31.5) 7(-76.77,-47.24) 15(76.77,-47.24) 16(76.77,-31.5) 17(76.77,-15.75) 18(76.77,0) 19(76.77,15.75) 20(76.77,31.5) 21(76.77,47.24)
  rect 7.87x33.46 smd: 8(-47.24,-76.77) 9(-31.5,-76.77) 10(-15.75,-76.77) 11(0,-76.77) 12(15.75,-76.77) 13(31.5,-76.77) 14(47.24,-76.77) 22(47.24,76.77) 23(31.5,76.77) 24(15.75,76.77) 25(0,76.77) 26(-15.75,76.77) 27(-31.5,76.77) 28(-47.24,76.77)
  rect 94.49x94.49 smd: 29(0,0)
Top Overlay:
  circle w7.87: c-93.5,70.87 r3.94
Mechanical 18:
  lines w1.97: -103.35,-103.35 103.35,-103.35 103.35,103.35 -103.35,103.35 -103.35,-103.35
  lines w3.94: -78.74,62.99 -62.99,78.74 ; -78.74,-78.74 78.74,-78.74 78.74,78.74 -78.74,78.74 -78.74,-78.74